# EAGLE library part 48LM01-I/SM (library 48LM01-I_SM)
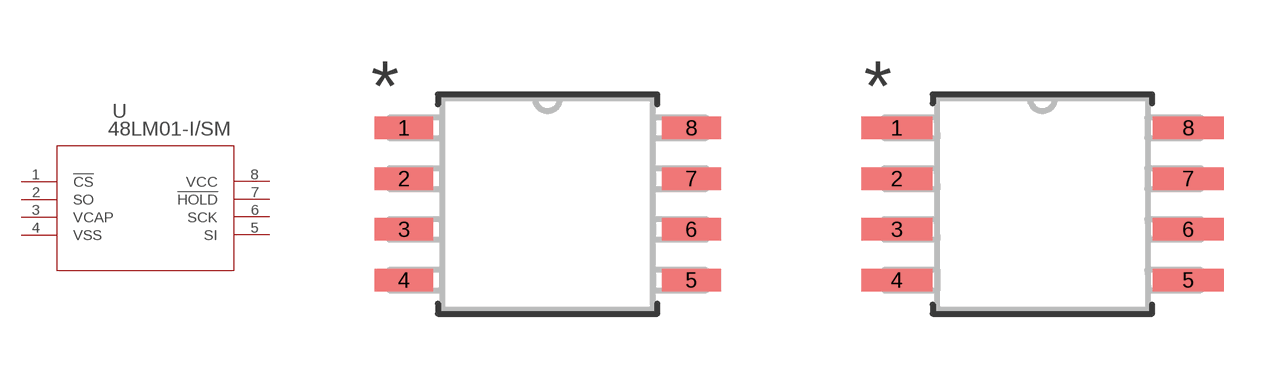
[diagram p0: symbol with the pads of SOIJ8_SM_MCH; footprints SOIJ8_SM_MCH, SOIJ8_SM_MCH-M]

Designator prefix U

## 48LM01-I/SM (COPYRIGHT: Copyright (C) 2021 Ultra Librarian. All rights reserved.; DIGI-KEY_PART_NUMBER_1: 150-48LM01-I/SM-ND; MANUFACTURER_PART_NUMBER: 48LM01-I/SM; MFR_NAME: Microchip)  [SOIJ8_SM_MCH]
1  !CS  in
2  SO  out
3  VCAP  pwr
4  VSS  pas
5  SI  in
6  SCK  in
7  !HOLD  in
8  VCC  pwr

## 48LM01-I/SMSOIJ8_SM_MCH-M (COPYRIGHT: Copyright (C) 2021 Ultra Librarian. All rights reserved.; DIGI-KEY_PART_NUMBER_1: 150-48LM01-I/SM-ND; MANUFACTURER_PART_NUMBER: 48LM01-I/SM; MFR_NAME: Microchip)  [SOIJ8_SM_MCH-M]
Pads as for SOIJ8_SM_MCH

## 48LM01-I/SMSOIJ8_SM_MCH-L (COPYRIGHT: Copyright (C) 2021 Ultra Librarian. All rights reserved.; DIGI-KEY_PART_NUMBER_1: 150-48LM01-I/SM-ND; MANUFACTURER_PART_NUMBER: 48LM01-I/SM; MFR_NAME: Microchip)  [SOIJ8_SM_MCH-L]
Pads as for SOIJ8_SM_MCH

## Footprint SOIJ8_SM_MCH (pad centres in mm)
smd 1.473 x 0.559: 1 -3.594,1.905; 2 -3.594,0.635; 3 -3.594,-0.635; 4 -3.594,-1.905; 5 3.594,-1.905; 6 3.594,-0.635; 7 3.594,0.635; 8 3.594,1.905

## Footprint SOIJ8_SM_MCH-M (pad centres in mm)
smd 1.778 x 0.559: 1 -3.645,1.905; 2 -3.645,0.635; 3 -3.645,-0.635; 4 -3.645,-1.905; 5 3.645,-1.905; 6 3.645,-0.635; 7 3.645,0.635; 8 3.645,1.905

## Footprint SOIJ8_SM_MCH-L (pad centres in mm)
smd 1.168 x 0.508: 1 -3.543,1.905; 2 -3.543,0.635; 3 -3.543,-0.635; 4 -3.543,-1.905; 5 3.543,-1.905; 6 3.543,-0.635; 7 3.543,0.635; 8 3.543,1.905